# Altium footprint library WE-PD2_1054.PcbLib: 1 footprints
Each footprint in its own frame and in the unit in brackets; x right, y up, seen from the top. Pads: shape width x height; smd on the part's side, far side on the other; paste and mask are expansions set on the pad; w line width, h text height; cw(c..) or ccw(c..) is an arc to the next point about the centre after c.
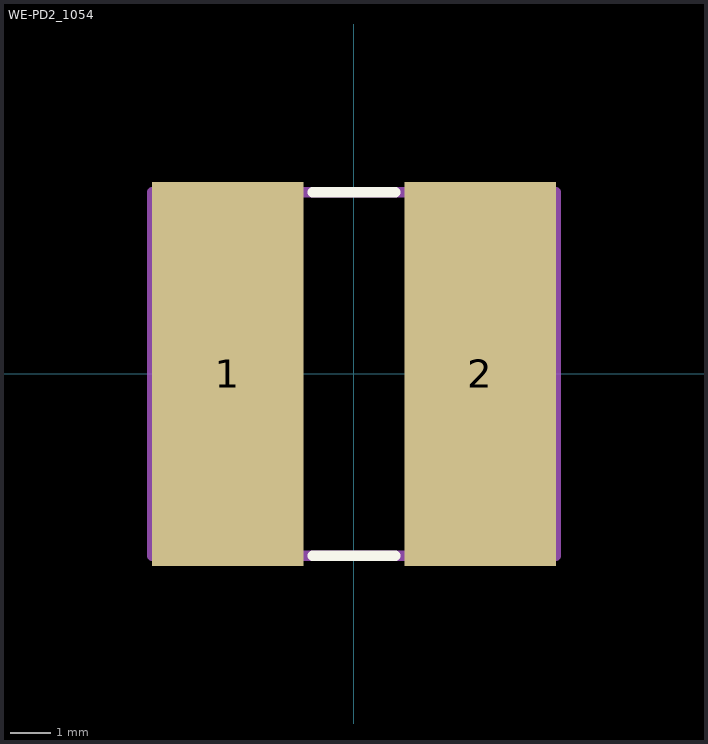
[diagram p0: the footprint, top view; thin cyan lines are the x and y axes]

## WE-PD2_1054 [mm] "SMD Power Inductor, size 1054, body 10x9mm"
height 5.4
pads (2):
  rect 3.75x9.5 smd: 1(-3.125,0) 2(3.125,0)
Top Overlay:
  lines w0.254: -1.02,-4.5 1.02,-4.5 ; -1.02,4.5 1.02,4.5
Mechanical 13:
  lines w0.254: -5,-4.5 5,-4.5 5,4.5 -5,4.5 -5,-4.5
3D body "IndPD2_1054_744776xx.stp": height 5.43, standoff 0.03, extent -5.044,-4.5 5.044,4.5